# Altium schematic symbol library TOY.SchLib: 2 symbols
Pins are listed as number, name and electrical type; pins without a type are passive.

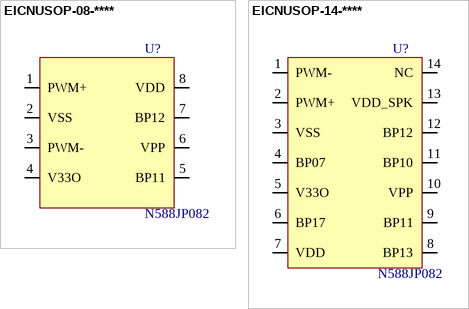
[diagram p0: symbols EICNUSOP-08-**** to EICNUSOP-14-****]

## EICNUSOP-08-****
designator U?, comment value N588JP082  (hidden comment: 8-bit 65C02 based, 1-ch Voice Synthesizer OTP)
Manufacturer: Nuvoton; Internal Part Number: EICNUSOP-08-****; 1st Auxiliary Field: 2V ~ 5.5V; 2nd Auxiliary Field: 254KB; 3rd Auxiliary Field: ROHS3 Compliant; Component Height (mm): 1.75mm; 4th Auxiliary Field: *; Manufacturer Part Number: N588JP082; Part Type: 8-bit 65C02 based, 1-ch Voice Synthesizer OTP; Temp Co: *; Vendor Name: Nuvoton; Vendor Part number: N588JP082
footprint SOP127P600X175-8N (SOP, 8-Leads, Body 4.90x3.90mm, Pitch 1.27mm, IPC Medium Density)
pins: 1 PWM+, 2 VSS, 3 PWM-, 4 V33O, 5 BP11, 6 VPP, 7 BP12, 8 VDD

## EICNUSOP-14-****
designator U?, comment value N588JP082  (hidden comment: 8-bit 65C02 based, 1-ch Voice Synthesizer OTP)
Manufacturer: Nuvoton; Internal Part Number: EICNUSOP-14-****; 1st Auxiliary Field: 2V ~ 5.5V; 2nd Auxiliary Field: 254KB; 3rd Auxiliary Field: ROHS3 Compliant; Component Height (mm): 1.75mm; 4th Auxiliary Field: *; Manufacturer Part Number: N588JP082; Part Type: 8-bit 65C02 based, 1-ch Voice Synthesizer OTP; Temp Co: *; Vendor Name: Nuvoton; Vendor Part number: N588JP082
footprint SOP127P600X175-14N (SOP, 14-Leads, Body 8.65x3.90mm, Pitch 1.27mm, IPC Medium Density)
pins: 1 PWM-, 2 PWM+, 3 VSS, 4 BP07, 5 V33O, 6 BP17, 7 VDD, 8 BP13, 9 BP11, 10 VPP, 11 BP10, 12 BP12, 13 VDD_SPK, 14 NC